# EAGLE library part PCA9517AD,118 (library RPi_Keypad_Tester)
PCA9517A Series 2.7 V to 5.5 V Level Translating I2C-Bus Repeater - SOIC - 8 Check prices <https://pricing.snapeda.com/parts/PCA9517AD%2C118/NXP%20USA/view-part?ref=eda>
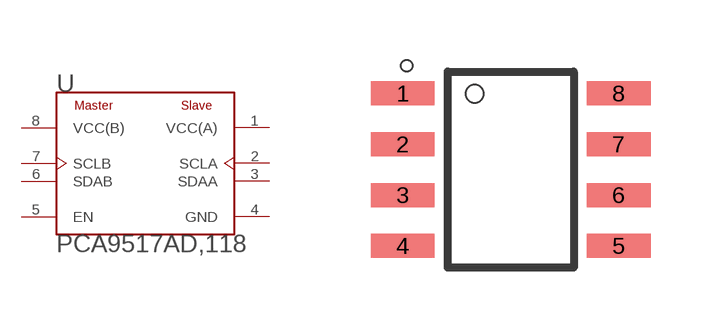
[diagram p7: symbol with the pads of SOIC127P600X175-8N; footprint SOIC127P600X175-8N]

Designator prefix U

## PCA9517AD,118 (AVAILABILITY: Good; DESCRIPTION: Buffer, ReDriver 2 Channel 400kHz 8-SO; MF: NXP USA; MP: PCA9517AD,118; PACKAGE: SO-8 NXP Semiconductors; PRICE: None; PURCHASE-URL: https://pricing.snapeda.com/search/part/PCA9517AD,118/?ref=eda)  [SOIC127P600X175-8N]
1  VCC(A)  pwr
2  SCLA  in
3  SDAA
4  GND  pwr
5  EN  in
6  SDAB
7  SCLB  in
8  VCC(B)  pwr

## Footprint SOIC127P600X175-8N (pad centres in mm)
smd 1.6 x 0.6: 1 -2.7,1.905; 2 -2.7,0.635; 3 -2.7,-0.635; 4 -2.7,-1.905; 5 2.7,-1.905; 6 2.7,-0.635; 7 2.7,0.635; 8 2.7,1.905